# Altium integrated library SR291C104KARTR1.IntLib: 1 symbol
Pins are listed as number, name and electrical type; pins without a type are passive.

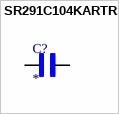
[diagram p0: symbol SR291C104KARTR1]

## SR291C104KARTR1
designator C?
Capacitor, Ceramic, 100nF, 100VDC, 10-% Tol, 10+% Tol, X7R-TC Code, -15, 15%-TC; MF: AVX; MP: SR291C104KARTR1; SnapEDA_Link: https://www.snapeda.com/parts/SR291C104KARTR1/AVX/view-part/?ref=snap; Package: Radial AVX; Value: *; Check_prices: https://www.snapeda.com/parts/SR291C104KARTR1/AVX/view-part/?ref=eda
footprint CAPRR254W50L508T317H508
pins: 1, 2